# Altium schematic symbol library Si5153 board.SchLib: 1 symbol
Pins are listed as number, name and electrical type; pins without a type are passive.

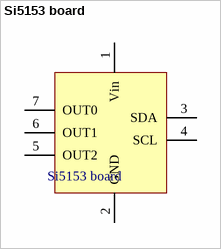
[diagram p0: symbol Si5153 board]

## Si5153 board
designator Si5153 board  (value not drawn)
pins: 1 Vin, 2 GND, 3 SDA, 4 SCL, 5 OUT2, 6 OUT1, 7 OUT0